# Altium footprint library alientek_sch_lib.PcbLib: 370 footprints (part 21 of 24)
Each footprint in its own frame and in the unit in brackets; x right, y up, seen from the top. Pads: shape width x height; smd on the part's side, far side on the other; paste and mask are expansions set on the pad; w line width, h text height; cw(c..) or ccw(c..) is an arc to the next point about the centre after c.
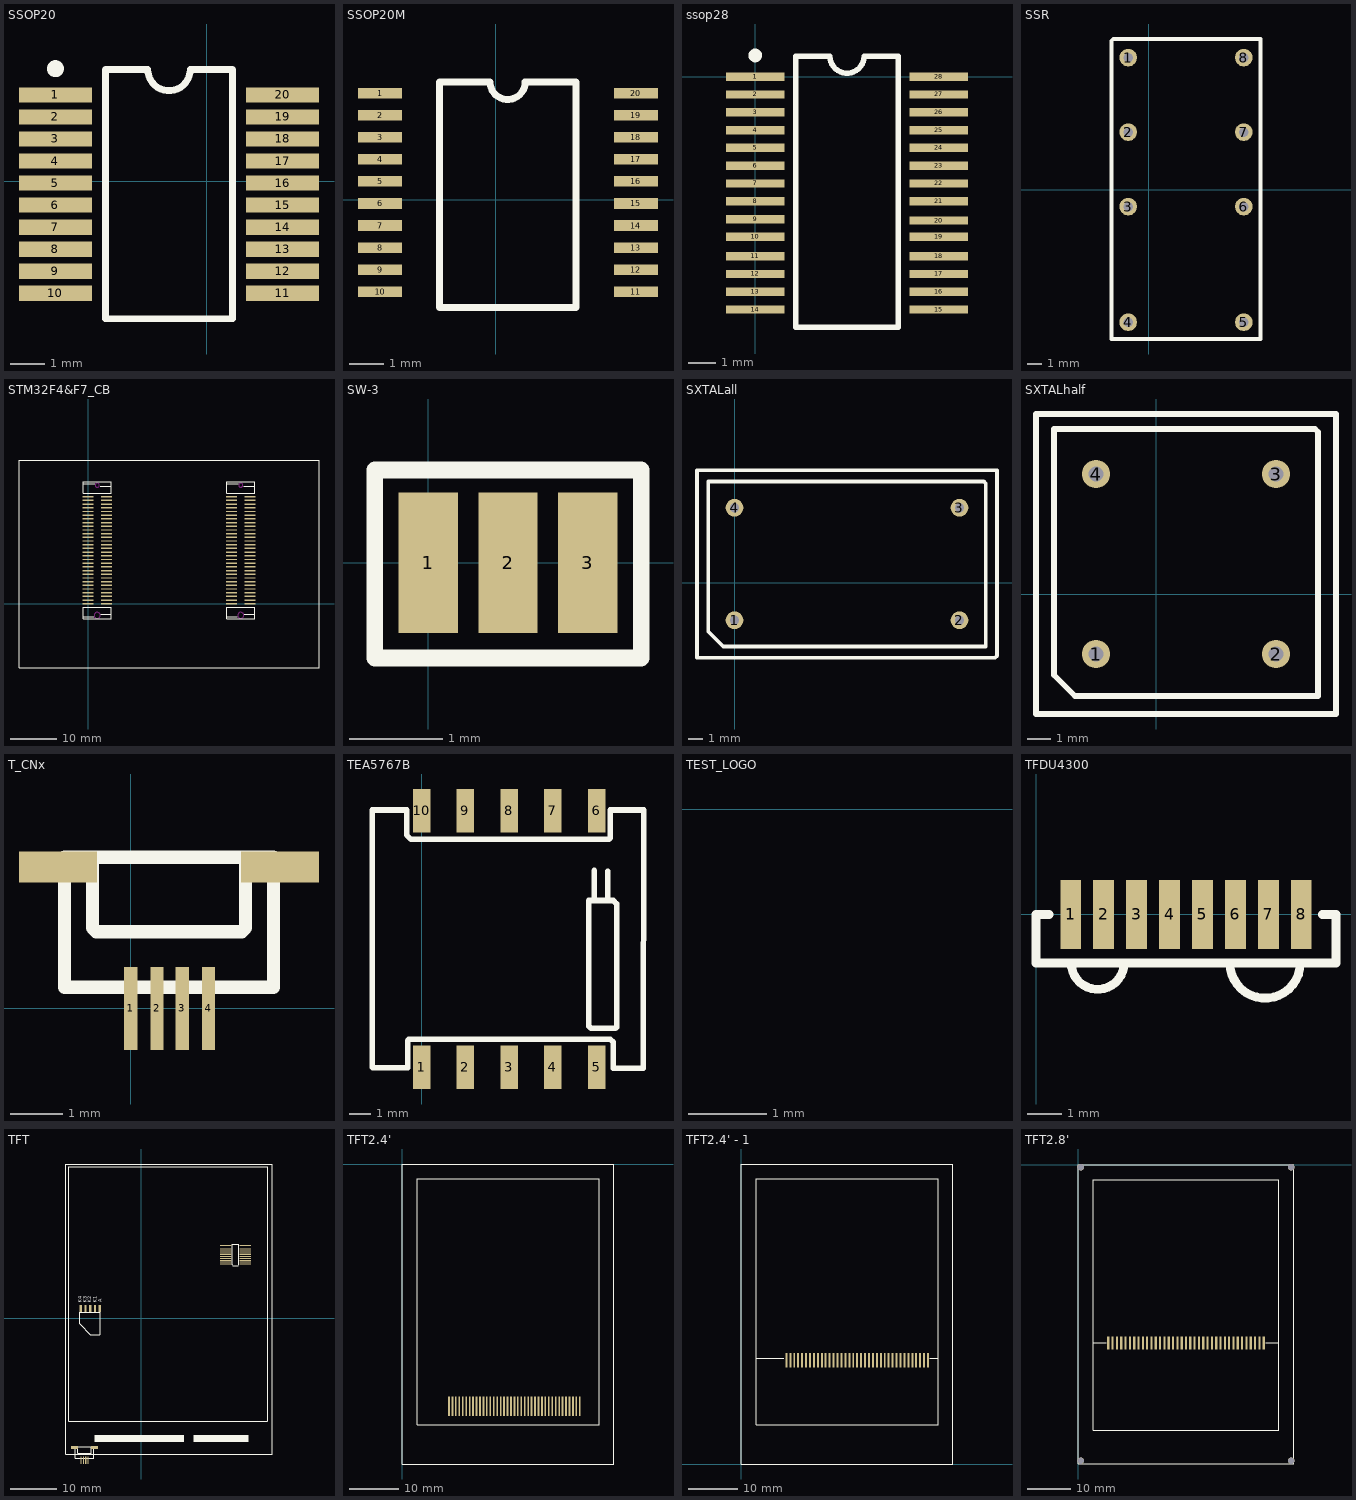
[diagram p20: the footprints below, top view; thin cyan lines are the x and y axes]

## SSOP20 [mm]
height 1
pads (20):
  rect 2.15x0.45 smd: 1(-4.468,2.544) 2(-4.468,1.894) 3(-4.468,1.244) 4(-4.468,0.594) 5(-4.468,-0.056) 6(-4.468,-0.706) 7(-4.468,-1.356) 8(-4.468,-2.006) 9(-4.468,-2.656) 10(-4.468,-3.306) 11(2.232,-3.306) 12(2.232,-2.656) 13(2.232,-2.006) 14(2.232,-1.356) 15(2.232,-0.706) 16(2.232,-0.056) 17(2.232,0.594) 18(2.232,1.244) 19(2.232,1.894) 20(2.232,2.544)
Top Overlay:
  circle w0.25: c-4.468,3.319 r0.125
  lines w0.2: -2.993,-4.056 -2.993,3.294 -1.743,3.294 ccw(c-1.118,3.294) -0.493,3.294 0.757,3.294 0.757,-4.056 -2.993,-4.056

## SSOP20M [mil] "SOP20M"
height 59.06
pads (20):
  rect 50x12 smd: 1(-131,121) 2(-131,96) 3(-131,71) 4(-131,46) 5(-131,21) 6(-131,-4) 7(-131,-29) 8(-131,-54) 9(-131,-79) 10(-131,-104) 11(159,-104) 12(159,-79) 13(159,-54) 14(159,-29) 15(159,-4) 16(159,21) 17(159,46) 18(159,71) 19(159,96) 20(159,121)
Top Overlay:
  lines w7.87: -7,133.79 -63.76,133.79 -63.76,-122.11 90.97,-122.11 90.97,133.79 33,133.79 ; -6.39,133.79 ccw(c13.61,133.79) 33.61,133.79

## ssop28 [mm] "SSOP28"
height 6.86
pads (28):
  rect 2.15x0.305 smd: 1(0,0) 2(0,-0.65) 3(0,-1.3) 4(0,-1.95) 5(0,-2.6) 6(0,-3.25) 7(0,-3.9) 8(0,-4.55) 9(0,-5.2) 10(0,-5.85) 11(0,-6.552) 12(0,-7.202) 13(0,-7.852) 14(0,-8.502) 15(6.7,-8.502) 16(6.7,-7.852) 17(6.7,-7.202) 18(6.7,-6.552) 19(6.7,-5.85) 20(6.7,-5.252) 21(6.7,-4.55) 22(6.7,-3.9) 23(6.7,-3.25) 24(6.7,-2.6) 25(6.7,-1.95) 26(6.7,-1.3) 27(6.7,-0.65) 28(6.7,0)
Top Overlay:
  circle w0.25: c0,0.775 r0.125
  lines w0.2: 1.475,-9.144 1.475,0.75 2.725,0.75 ccw(c3.35,0.75) 3.975,0.75 5.225,0.75 5.225,-9.144 1.475,-9.144

## SSR [mm]
height 12
pads (8):
  round 1.2 hole 0.635: 1(-1.397,9.017) 2(-1.397,3.937) 3(-1.397,-1.143) 4(-1.397,-9.017) 5(6.477,-9.017) 6(6.477,-1.143) 7(6.477,3.937) 8(6.477,9.017)
Top Overlay:
  lines w0.254: -2.54,-10.16 7.62,-10.16 7.62,10.287 -2.413,10.287 -2.54,10.16 -2.54,-10.16

## STM32F4&F7_CB [mm] "PIN:0.5mm;SOP;"
height 1.25
pads (120):
  rect 2.3x0.3 smd: J1_1(0,0) J1_2(0,0.8) J1_3(0,1.6) J1_4(0,2.4) J1_5(0,3.2) J1_6(0,4) J1_7(0,4.8) J1_8(0,5.6) J1_9(0,6.4) J1_10(0,7.2) J1_11(0,8) J1_12(0,8.8) J1_13(0,9.6) J1_14(0,10.4) J1_15(0,11.2) J1_16(0,12) J1_17(0,12.8) J1_18(0,13.6) J1_19(0,14.4) J1_20(0,15.2) J1_21(0,16) J1_22(0,16.8) J1_23(0,17.6) J1_24(0,18.4) J1_25(0,19.2) J1_26(0,20) J1_27(0,20.8) J1_28(0,21.6) J1_29(0,22.4) J1_30(0,23.2) J1_31(4,23.2) J1_32(4,22.4) J1_33(4,21.6) J1_34(4,20.8) J1_35(4,20) J1_36(4,19.2) J1_37(4,18.4) J1_38(4,17.6) J1_39(4,16.8) J1_40(4,16) J1_41(4,15.2) J1_42(4,14.4) J1_43(4,13.6) J1_44(4,12.8) J1_45(4,12) J1_46(4,11.2) J1_47(4,10.4) J1_48(4,9.6) J1_49(4,8.8) J1_50(4,8) J1_51(4,7.2) J1_52(4,6.4) J1_53(4,5.6) J1_54(4,4.8) J1_55(4,4) J1_56(4,3.2) J1_57(4,2.4) J1_58(4,1.6) J1_59(4,0.8) J1_60(4,0) J2_1(31.1,0.001) J2_2(31.1,0.801) J2_3(31.1,1.601) J2_4(31.1,2.401) J2_5(31.1,3.201) J2_6(31.1,4.001) J2_7(31.1,4.801) J2_8(31.1,5.601) J2_9(31.1,6.401) J2_10(31.1,7.201) J2_11(31.1,8.001) J2_12(31.1,8.801) J2_13(31.1,9.601) J2_14(31.1,10.401) J2_15(31.1,11.201) J2_16(31.1,12.001) J2_17(31.1,12.801) J2_18(31.1,13.601) J2_19(31.1,14.401) J2_20(31.1,15.201) J2_21(31.1,16.001) J2_22(31.1,16.801) J2_23(31.1,17.601) J2_24(31.1,18.401) J2_25(31.1,19.201) J2_26(31.1,20.001) J2_27(31.1,20.801) J2_28(31.1,21.601) J2_29(31.1,22.401) J2_30(31.1,23.201) J2_31(35.1,23.201) J2_32(35.1,22.401) J2_33(35.1,21.601) J2_34(35.1,20.801) J2_35(35.1,20.001) J2_36(35.1,19.201) J2_37(35.1,18.401) J2_38(35.1,17.601) J2_39(35.1,16.801) J2_40(35.1,16.001) J2_41(35.1,15.201) J2_42(35.1,14.401) J2_43(35.1,13.601) J2_44(35.1,12.801) J2_45(35.1,12.001) J2_46(35.1,11.201) J2_47(35.1,10.401) J2_48(35.1,9.601) J2_49(35.1,8.801) J2_50(35.1,8.001) J2_51(35.1,7.201) J2_52(35.1,6.401) J2_53(35.1,5.601) J2_54(35.1,4.801) J2_55(35.1,4.001) J2_56(35.1,3.201) J2_57(35.1,2.401) J2_58(35.1,1.601) J2_59(35.1,0.801) J2_60(35.1,0.001)
Top Overlay:
  lines w0.127: -14.95,-13.874 -14.95,31.126 50.05,31.126 50.05,-13.874 -14.95,-13.874
  lines w0.152: -1,-2.8 1.2,-2.8 ; -1,-0.775 -1,-3.275 5,-3.275 5,-0.775 -0.975,-0.775 ; -1,26 1.5,26 ; 2.6,25.5 5,25.5 ; 2.8,-2.3 5,-2.3 ; 30.1,-2.799 32.3,-2.799 ; 30.1,-0.774 30.1,-3.274 36.1,-3.274 36.1,-0.774 30.125,-0.774 ; 30.1,26.001 32.6,26.001 ; 33.7,25.501 36.1,25.501 ; 33.9,-2.299 36.1,-2.299 ; -1,23.975 5,23.975 5,26.475 -1,26.475 -1,23.975 ; 30.1,23.976 30.1,26.476 36.1,26.476 36.1,23.976 30.1,23.976
Keep-Out Layer:
  circle w0.152: c33.1,25.701 r0.45
  circle w0.152: c33.1,-2.499 r0.65
  circle w0.152: c2,-2.5 r0.65
  circle w0.152: c2,25.7 r0.45

## SW-3 [mm] "SWITCH;PIN:10;25*50;"
pads (3):
  rect 0.635x1.5 smd: 1(0,0) 2(0.851,0) 3(1.702,0)
Top Overlay:
  lines w0.178: -0.572,-1.016 -0.572,0.991 2.273,0.991 2.273,-1.016 -0.572,-1.016

## SXTALall [mm] "SXTAL"
height 5
pads (4):
  round 1.2 hole 0.635: 1(0,-2.54) 2(15.24,-2.54) 3(15.24,5.08) 4(0,5.08)
Top Overlay:
  lines w0.254: -2.54,-5.08 -2.54,7.62 17.78,7.62 17.78,-4.953 17.653,-5.08 -2.54,-5.08 ; -1.778,-3.302 -1.778,6.858 16.891,6.858 17.018,6.731 17.018,-4.318 -0.762,-4.318 -1.778,-3.302

## SXTALhalf [mm] "SXTAL"
height 5
pads (4):
  round 1.2 hole 0.635: 1(-2.54,-2.54) 2(5.08,-2.54) 3(5.08,5.08) 4(-2.54,5.08)
Top Overlay:
  lines w0.254: -5.08,-5.08 -5.08,7.62 0,7.62 7.62,7.62 7.62,-5.08 -5.08,-5.08 ; -4.318,-3.429 -4.318,6.985 6.731,6.985 6.858,6.858 6.858,-4.318 -3.429,-4.318 -4.318,-3.429

## T_CNx [mil] "TOUCH_CN"
height 39.37
pads (6):
  rect 10x62.99 smd: 1(0,0) 2(20,0) 3(39,0) 4(59,0)
  rect 59.06x23.62 smd: ""(-55,107) ""(113,107)
Top Overlay:
  lines w10: -29,114.43 -29,61 -26,58 84,58 87,61 87,114.43 ; 107.48,16 -50,16 -50,114.43 108,114.43 108,16

## TEA5767B [mm] "TEA5767"
height 2
pads (10):
  rect 0.8x2 smd: 1(0,5.08) 2(2,5.08) 3(4,5.08) 4(6,5.08) 5(8,5.08) 6(8,16.8) 7(6,16.8) 8(4,16.8) 9(2,16.8) 10(0,16.8)
Top Overlay:
  lines w0.254: 7.899,12.7 7.899,14.072 ; 8.509,12.7 8.509,14.046 ; -2.261,5.08 -2.235,5.055 -0.635,5.055 -0.635,6.299 -0.584,6.35 8.636,6.35 8.763,6.223 8.763,5.029 10.135,5.029 10.16,16.637 10.16,16.84 8.636,16.84 8.636,15.57 8.56,15.494 -0.483,15.494 -0.686,15.697 -0.686,16.84 -2.261,16.84 -2.261,5.08 ; 7.645,6.96 7.747,6.858 8.865,6.858 8.915,6.909 8.915,12.548 8.763,12.7 7.645,12.7 7.645,6.96

## TEST_LOGO [mm]
Top Overlay:
  text "车载POS机控制板" at -12.827,-3.556 h3.81

## TFDU4300 [mm] "8.5mm*2.85mm;pin:0.95mm;"
height 2.4
pads (8):
  rect 0.6x2 smd: 1(1,0) 2(1.95,0) 3(2.9,0) 4(3.85,0) 5(4.8,0) 6(5.75,0) 7(6.7,0) 8(7.65,0)
Top Overlay:
  lines w0.254: 0.381,0 0,0 0,-1.397 8.65,-1.397 8.65,0 8.255,0 ; 1.016,-1.397 ccw(c1.778,-1.397) 2.54,-1.397 ; 5.588,-1.397 ccw(c6.604,-1.397) 7.62,-1.397

## TFT [mil] "TFTLCD_34"
height 196.85
pads (33):
  rect 98.43x8 smd: 1(710,615) 2(710,599.25) 3(710,583.5) 4(710,567.76) 5(710,552.01) 6(710,536.26) 7(710,520.51) 8(710,504.76) 9(710,489.02) 10(710,473.27) 11(710,457.52) 12(875.35,457.52) 13(875.35,473.27) 14(875.35,489.02) 15(875.35,504.76) 16(875.35,520.51) 17(875.35,536.26) 18(875.35,552.01) 19(875.35,567.76) 20(875.35,583.5) 21(875.35,599.25) 22(875.35,615)
  rect 19.68x59.05 smd: 23(-350,83.9) 24(-390,83.9) 26(-470,83.9) 27(-510,83.9)
  rect 19.68x59.06 smd: 25(-430,83.9)
  rect 10x62.99 smd: 28(-508,-1194) 29(-488,-1194) 30(-469,-1194) 31(-449,-1194)
  rect 59.06x23.62 smd: ""(-563,-1087) ""(-395,-1087)
Top Overlay:
  rectangle: 440,-1040 900,-980
  rectangle: -395,-1040 360,-980
  lines w10: -537,-1079.57 -537,-1133 -534,-1136 -424,-1136 -421,-1133 -421,-1079.57 ; -400.52,-1178 -558,-1178 -558,-1079.57 -400,-1079.57 -400,-1178 ; -350,-136.1 -430,-136.1 -520,-46.1 -520,53.9 -345,53.9 -345,-16.1 -345,-136.1 ; -635,-1145 -635,1300 1100,1300 1100,900 1100,-895 1100,-1145 -635,-1145 ; -610,-865.35 1060,-865.35 1065,-860.35 1065,1275 -610,1275 -610,-865.35 ; 765,450 770,445 815,445 820,450 820,625 765,625 765,450
  text "A" at -335,135 h30
  text "K1" at -375,130 h30
  text "K2" at -420,130 h30
  text "K3" at -460,130 h30
  text "K4" at -500,130 h30

## TFT2.4' [mm] "TFT,LCD,320*240,2.4',TOUCH,8/16bit"
height 5
pads (39):
  rect 0.35x4 smd: 1(9.5,-49.25) 2(10.2,-49.25) 3(10.9,-49.25) 4(11.6,-49.25) 5(12.3,-49.25) 6(13,-49.25) 7(13.7,-49.25) 8(14.4,-49.25) 9(15.1,-49.25) 10(15.8,-49.25) 11(16.5,-49.25) 12(17.2,-49.25) 13(17.9,-49.25) 14(18.6,-49.25) 15(19.3,-49.25) 16(20,-49.25) 17(20.7,-49.25) 18(21.4,-49.25) 19(22.1,-49.25) 20(22.8,-49.25) 21(23.5,-49.25) 22(24.2,-49.25) 23(24.9,-49.25) 24(25.6,-49.25) 25(26.3,-49.25) 26(27,-49.25) 27(27.7,-49.25) 28(28.4,-49.25) 29(29.1,-49.25) 30(29.8,-49.25) 31(30.5,-49.25) 32(31.2,-49.25) 33(31.9,-49.25) 34(32.6,-49.25) 35(33.3,-49.25) 36(34,-49.25) 37(34.7,-49.25) 38(35.4,-49.25) 39(36.1,-49.25)
Top Overlay:
  lines w0.254: 0,-61 0,0 43,0 43,-61 0,-61 ; 3.048,-53.048 3.048,-3.048 40.005,-3.048 40.005,-53.048 3.048,-53.048

## TFT2.4' - 1 [mm] "TFT,LCD,320*240,2.4',TOUCH,8/16bit,GENE"
height 5
pads (37):
  rect 0.4x3 smd: 1(9.173,21.082) 2(9.973,21.082) 3(10.773,21.082) 4(11.573,21.082) 5(12.373,21.082) 6(13.173,21.082) 7(13.973,21.082) 8(14.773,21.082) 9(15.573,21.082) 10(16.373,21.082) 11(17.173,21.082) 12(17.973,21.082) 13(18.773,21.082) 14(19.573,21.082) 15(20.373,21.082) 16(21.173,21.082) 17(21.973,21.082) 18(22.773,21.082) 19(23.573,21.082) 20(24.373,21.082) 21(25.173,21.082) 22(25.973,21.082) 23(26.773,21.082) 24(27.573,21.082) 25(28.373,21.082) 26(29.173,21.082) 27(29.973,21.082) 28(30.773,21.082) 29(31.573,21.082) 30(32.373,21.082) 31(33.173,21.082) 32(33.973,21.082) 33(34.773,21.082) 34(35.573,21.082) 35(36.373,21.082) 36(37.173,21.082) 37(37.973,21.082)
Top Overlay:
  lines w0.254: 3.175,21.463 8.636,21.463 ; 38.354,21.463 40.005,21.463 ; 0,0 43,0 43,61 0,61 0,0 ; 3.048,7.952 40.005,7.952 40.005,57.952 3.048,57.952 3.048,7.952

## TFT2.8' [mm] "TFT,LCD,320*240,2.8',TOUCH,8/16bit"
height 5
pads (41):
  rect 0.5x3 smd: 1(7,-41.375) 2(8,-41.375) 3(9,-41.375) 4(10,-41.375) 5(11,-41.375) 6(12,-41.375) 7(13,-41.375) 8(14,-41.375) 9(15,-41.375) 10(16,-41.375) 11(17,-41.375) 12(18,-41.375) 13(19,-41.375) 14(20,-41.375) 15(21,-41.375) 16(22,-41.375) 17(23,-41.375) 18(24,-41.375) 19(25,-41.375) 20(26,-41.375) 21(27,-41.375) 22(28,-41.375) 23(29,-41.375) 24(30,-41.375) 25(31,-41.375) 26(32,-41.375) 27(33,-41.375) 28(34,-41.375) 29(35,-41.375) 30(36,-41.375) 31(37,-41.375) 32(38,-41.375) 33(39,-41.375) 34(40,-41.375) 35(41,-41.375) 36(42,-41.375) 37(43,-41.375)
  round 1.5 hole 1.5: 38(49.375,-0.625) 39(0.625,-0.625) 40(49.375,-68.625) 41(0.625,-68.625)
Top Overlay:
  lines w0.254: 3.5,-41.275 6.477,-41.275 ; 43.461,-41.275 46.5,-41.275 ; 0,-69.3 0,0 50,0 50,-69.3 0,-69.3 ; 3.5,-61.6 3.5,-3.5 46.5,-3.5 46.5,-61.6 3.5,-61.6